# EAGLE library part ALT4532 (library magnetics)
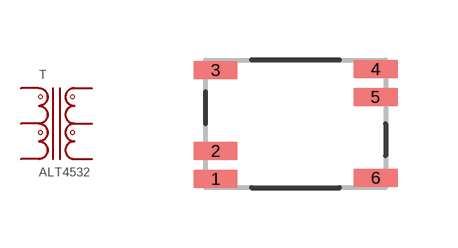
[diagram p0: symbol with the pads of TDK-ALT4532; footprint TDK-ALT4532]

Designator prefix T

## ALT4532  [TDK-ALT4532]
1  1  pas
2  2  pas
3  3  pas
4  4  pas
5  5  pas
6  6  pas

## Footprint TDK-ALT4532 (pad centres in mm)
smd 1.1 x 0.45: 1 -2,-1.375; 2 -2,-0.675; 3 -2,1.35; 4 2,1.375; 5 2,0.675; 6 2,-1.35